# EAGLE library part MAX3232 (library TABOR K1)
True RS-232 Transceivers 3.0V to 5.5V, Low-Power up to 1Mbps, Using Four 0.1µF External Capacitors Source: http://pdfserv.maxim-ic.com/en/ds/MAX3222-MAX3241.pdf
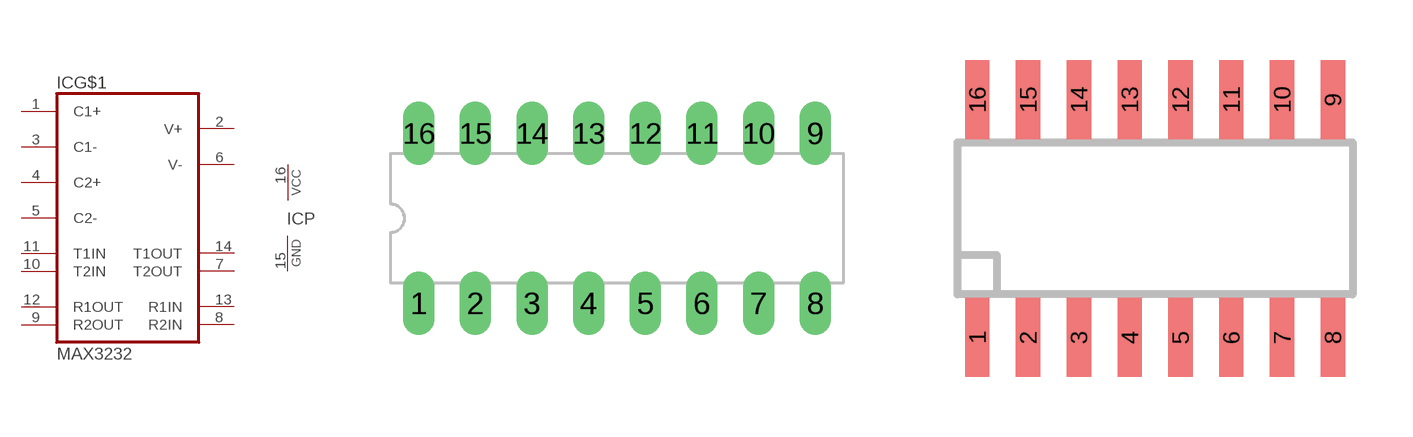
[diagram p42: symbol with the pads of DIL16; footprints DIL16, SO16]

Designator prefix IC; gates G$1=MAX3232 P=PWR-GND-VCC

## MAX3232PE  [DIL16]
1  G$1:C1+  pas
2  G$1:V+  pas
3  G$1:C1-  pas
4  G$1:C2+  pas
5  G$1:C2-  pas
6  G$1:V-  pas
7  G$1:T2OUT  out
8  G$1:R2IN  in
9  G$1:R2OUT  out
10  G$1:T2IN  in
11  G$1:T1IN  in
12  G$1:R1OUT  out
13  G$1:R1IN  in
14  G$1:T1OUT  out
15  P:GND  pwr
16  P:VCC  pwr

## MAX3232SMD-SO16  [SO16]
Pads as for DIL16

## Footprint DIL16 (pad centres in mm)
Púzdro DIL16 : diera s pokovenim = 0,6 mm, vrtanie = 0,8mm
drill 0.813 pad 1.422 long: 1 -8.89,-3.81; 2 -6.35,-3.81; 3 -3.81,-3.81; 4 -1.27,-3.81; 5 1.27,-3.81; 6 3.81,-3.81; 7 6.35,-3.81; 8 8.89,-3.81; 9 8.89,3.81; 10 6.35,3.81; 11 3.81,3.81; 12 1.27,3.81; 13 -1.27,3.81; 14 -3.81,3.81; 15 -6.35,3.81; 16 -8.89,3.81

## Footprint SO16 (pad centres in mm)
Puzdro SO16 : cinova ploska = 0,86 mm
smd 0.61 x 1.981: 1 -4.445,-2.972; 2 -3.175,-2.972; 3 -1.905,-2.972; 4 -0.635,-2.972; 5 0.635,-2.972; 6 1.905,-2.972; 7 3.175,-2.972; 8 4.445,-2.972; 9 4.445,2.972; 10 3.175,2.972; 11 1.905,2.972; 12 0.635,2.972; 13 -0.635,2.972; 14 -1.905,2.972; 15 -3.175,2.972; 16 -4.445,2.972